# Altium footprint library SMD Connectors.PcbLib: 24 footprints (part 1 of 2)
Each footprint in its own frame and in the unit in brackets; x right, y up, seen from the top. Pads: shape width x height; smd on the part's side, far side on the other; paste and mask are expansions set on the pad; w line width, h text height; cw(c..) or ccw(c..) is an arc to the next point about the centre after c.
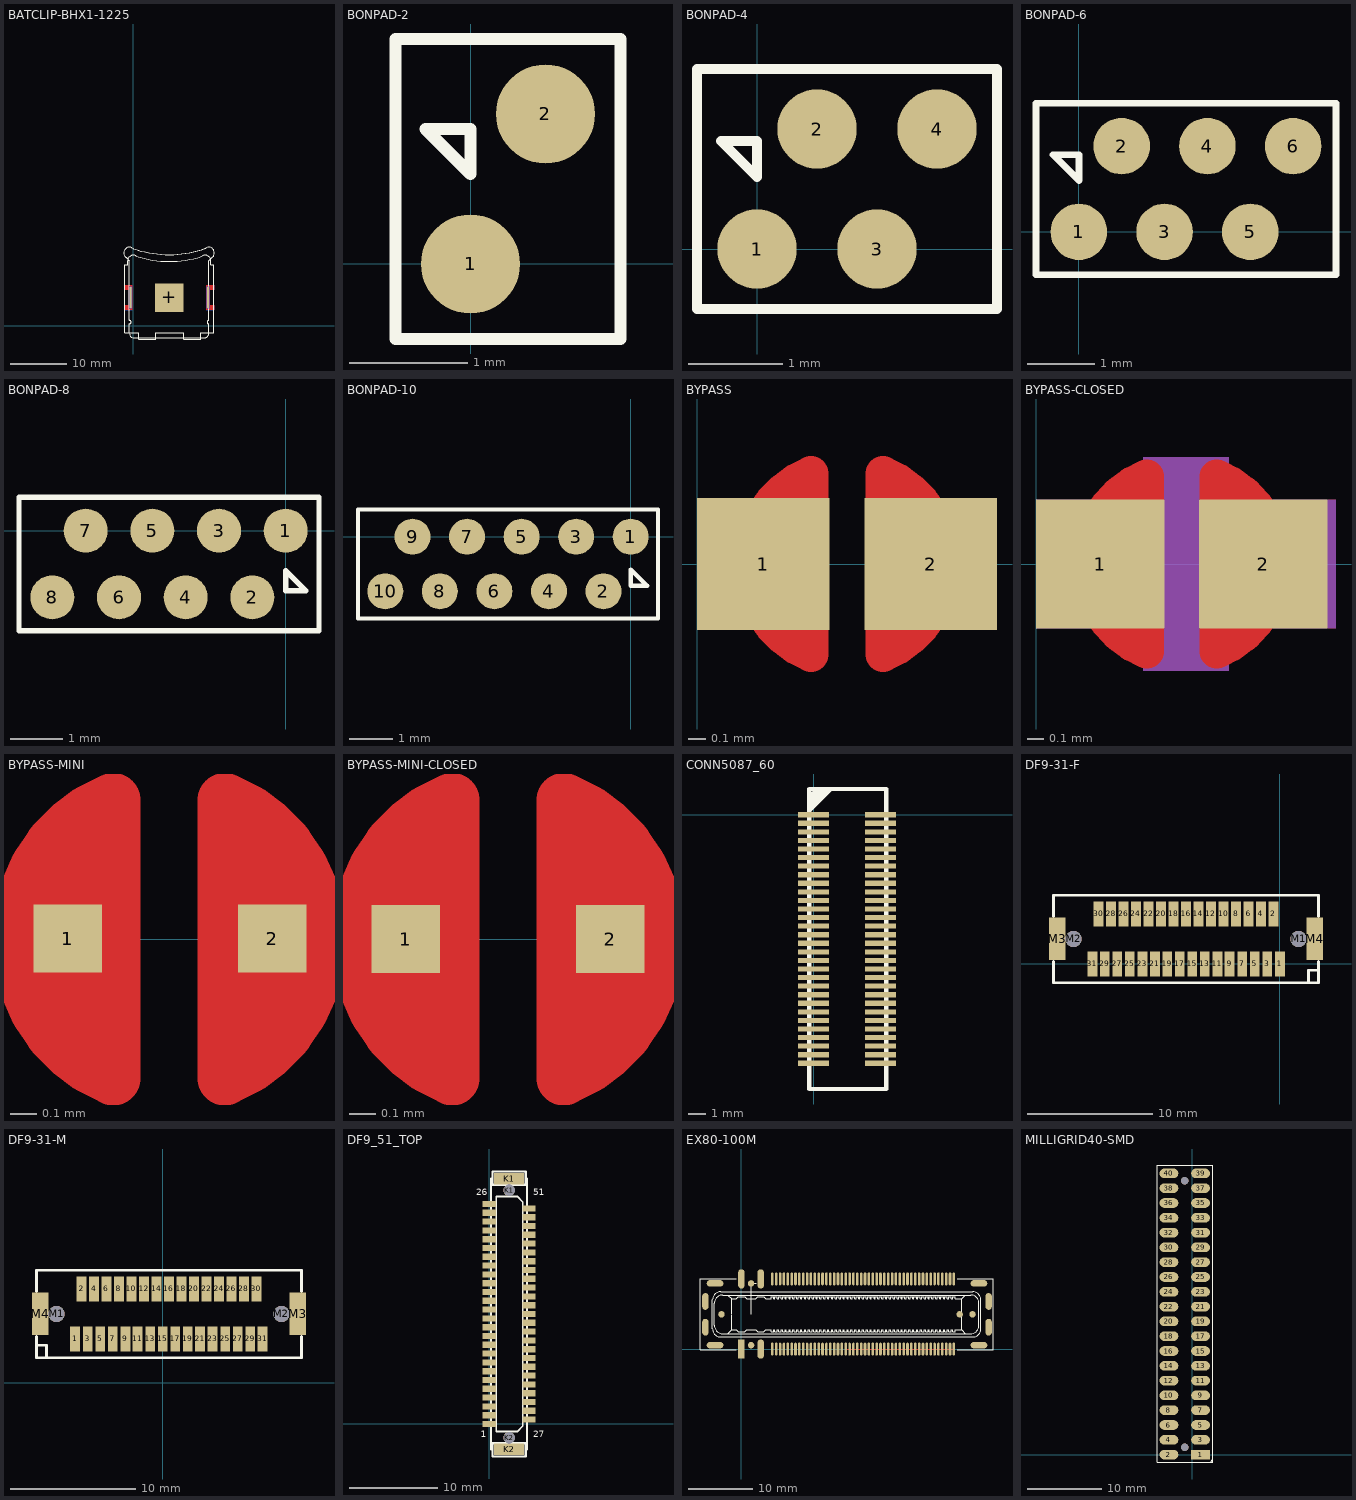
[diagram p0: the footprints below, top view; thin cyan lines are the x and y axes]

## BATCLIP-BHX1-1225 [mil] "BATTERY CLIP 1225 WITH TRAY"
pads (5):
  rect 196.85x196.85 smd mask+2: +(252,196.49)
  rect 15x150 smd far side mask+2: -(-20,197) -(524,197)
  rect 15x150 smd mask+2: -(-20,198) -(524,198)
Top Layer:
  region: 566.33,284.61 566.33,253.12 539.56,253.12 535.62,249.18 535.62,146.82 539.56,142.88 566.94,142.88 566.94,111.57 567.12,111.39 512,111.39 512,284.61
  region: -62.33,284.61 -62.33,253.12 -35.56,253.12 -31.62,249.18 -31.62,146.82 -35.56,142.88 -62.94,142.88 -62.94,111.57 -63.12,111.39 -8,111.39 -8,284.61
Bottom Layer:
  region: -62.33,283.61 -62.33,252.12 -35.56,252.12 -31.62,248.18 -31.62,145.82 -35.56,141.88 -62.94,141.88 -62.94,110.57 -63.12,110.39 -8,110.39 -8,283.61
  region: 566.33,283.61 566.33,252.12 539.56,252.12 535.62,248.18 535.62,145.82 539.56,141.88 566.94,141.88 566.94,110.57 567.12,110.39 512,110.39 512,283.61
Top Overlay:
  lines w5: -50.41,477.66 cw(c-26.32,509.78) -0.19,540.27 ; -26.32,-53.21 ccw(c5.18,-53.21) 5.18,-84.7 ; -26.32,13.72 ccw(c-26.32,25.53) -14.51,25.53 ccw(c-26.32,25.53) -26.32,37.34 ; 497.3,-84.7 ccw(c497.3,-53.21) 528.8,-53.21 ; 502.67,540.27 cw(c528.8,509.78) 552.89,477.66 ; 528.8,13.72 cw(c528.8,25.53) 516.99,25.53 cw(c528.8,25.53) 528.8,37.34
  lines w6: -39.07,455.67 cw(c0.34,454.51) 22.08,487.41 ; -0.19,540.27 ccw(c248.98,1252.87) 502.41,541.77 ; 2.81,540.27 ccw(c251.98,1252.87) 505.41,541.77 ; 21.83,486.65 ccw(c251.98,1205.62) 479.48,485.81 ; 482.46,487.41 cw(c504.2,454.51) 543.61,455.67
  lines w8: -49.94,478.29 -26.32,454.67 -26.32,415.3 -26.32,37.34 ; -26.32,-53.21 -26.32,13.72 ; 5.18,-84.7 497.3,-84.7 ; 528.8,-53.21 528.8,13.72 ; 528.8,37.34 528.8,415.3 528.8,454.67 552.42,478.29 ; 543.07,427.11 547,427.11 562.75,427.11 562.75,210.57 562.75,-49.27 ; 543.61,455.67 543.61,427.11 547.55,427.11 563.29,427.11 563.29,210.57 563.29,-49.27 472.74,-49.27 472.74,-92.58 354.63,-92.58 354.63,-49.27 157.78,-49.27 157.78,-92.58 39.67,-92.58 39.67,-49.27 -58.75,-49.27 -58.75,210.57 -58.75,427.11 -43.01,427.11 -39.07,427.11 -39.07,455.67 ; -39.07,455.67 -39.07,455.67 ; 540.61,455.67 540.61,455.67
Top Solder:
  region: 509,290 509,105 569,105 569,289 570,290
  region: -5,290 -5,105 -65,105 -65,289 -66,290
Bottom Solder:
  region: -5,290 -5,105 -65,105 -65,289 -66,290
  region: 509,290 509,105 569,105 569,289 570,290
3D body: height 139.76, standoff 118.11, extent 554,158 564.25,238
3D body: height 139.76, standoff 118.11, extent -59.12,157 -48.87,237
3D body: height 139.76, standoff 118.11, extent 39.67,-92.58 157.78,-82.33
3D body: height 139.76, standoff 118.11, extent 354.63,-93.07 472.74,-82.83
3D body: height 139.76, standoff 118.11, extent 553.54,-49.27 563.79,427.11
3D body: height 139.76, standoff 118.11, extent -59.25,-49.27 -49,427.11
3D body: height 115, standoff 25, extent -63,-85 567,545
3D body: height 139.76, standoff 118.11, extent -60,-95 560,490

## BONPAD-2 [mil]
pads (2):
  round 33 smd: 1(0,0) 2(25,50)
Top Overlay:
  lines w4: -25,-25 -25,75 50,75 50,-25 -25,-25 ; -15,45 0,45 0,30 -15,45

## BONPAD-4 [mil]
pads (4):
  round 33 smd: 1(0,0) 2(25,50) 3(50,0) 4(75,50)
Top Overlay:
  lines w4: -25,-25 100,-25 100,75 -25,75 -25,-25 ; -15,45 0,30 0,45 -15,45

## BONPAD-6 [mil]
pads (6):
  round 33 smd: 1(0,0) 2(25,50) 3(50,0) 4(75,50) 5(100,0) 6(125,50)
Top Overlay:
  lines w4: -25,-25 150,-25 150,75 -25,75 -25,-25 ; -15,45 0,30 0,45 -15,45

## BONPAD-8 [mil]
pads (8):
  round 33 smd: 1(0,0) 2(-25,-50) 3(-50,0) 4(-75,-50) 5(-100,0) 6(-125,-50) 7(-150,0) 8(-175,-50)
Top Overlay:
  lines w4: -200,-75 -200,25 25,25 25,-75 -200,-75 ; 0,-45 15,-45 0,-30 0,-45

## BONPAD-10 [mil] "BONDING PAD X 10"
pads (10):
  round 33 smd: 1(0,0) 2(-25,-50) 3(-50,0) 4(-75,-50) 5(-100,0) 6(-125,-50) 7(-150,0) 8(-175,-50) 9(-200,0) 10(-225,-50)
Top Overlay:
  lines w4: -250,-75 25,-75 25,25 -250,25 -250,-75 ; 0,-45 0,-30 15,-45 0,-45

## BYPASS [mil] "SOLDERDOT BYPASS"
pads (2):
  rect 30x30 smd paste-300: 1(15,0)
  rect 30x30 smd paste-30: 2(53,0)
Top Layer:
  lines w8: 25.83,-20.43 cw(c34,0) 25.83,20.43 25.83,-20.43 ; 42.17,-20.43 ccw(c34,0) 42.17,20.43 42.17,-20.43
Top Solder:
  circle w30: c34,0 r15

## BYPASS-CLOSED [mil] "SOLDERDOT BYPASS CLOSED"
pads (2):
  rect 30x30 smd: 1(15,0) 2(53,0)
Top Layer:
  lines w8: 25.83,-20.43 cw(c34,0) 25.83,20.43 25.83,-20.43 ; 42.17,-20.43 ccw(c34,0) 42.17,20.43 42.17,-20.43
Top Solder:
  circle w30: c34,0 r15
Mechanical 3:
  rectangle: 0,-15 70,15
  rectangle: 20,-20 50,20
  rectangle: 25,-25 45,25
3D body: height 25, standoff -15, extent 15,-20 54.79,19.83
3D body: height 10, standoff 0, extent 5,-10 65,10
3D body: height 10, standoff 0, extent 15,-20 54.84,19.92

## BYPASS-MINI [mil] "SOLDERDOT BYPASS"
pads (2):
  rect 10x10 smd paste-300: 1(19.14,0.05)
  rect 10x10 smd paste-30: 2(49.14,0.05)
Top Layer:
  region: 43,18 45,18 55,8 55,-9 46,-18 43,-18
  region: 25,18 23,18 13,8 13,-9 22,-18 25,-18
  lines w8: 25.83,-20.43 cw(c34,0) 25.83,20.43 25.83,-20.43 ; 42.17,-20.43 ccw(c34,0) 42.17,20.43 42.17,-20.43
Top Solder:
  circle w30: c34,0 r13.19

## BYPASS-MINI-CLOSED [mil] "SOLDERDOT BYPASS"
pads (2):
  rect 10x10 smd paste-300: 1(19,0)
  rect 10x10 smd paste-30: 2(49,0)
Top Layer:
  region: 25,18 23,18 13,8 13,-9 22,-18 25,-18
  region: 43,18 45,18 55,8 55,-9 46,-18 43,-18
  lines w8: 25.83,-20.43 cw(c34,0) 25.83,20.43 25.83,-20.43 ; 42.17,-20.43 ccw(c34,0) 42.17,20.43 42.17,-20.43
Top Solder:
  circle w30: c34.06,0 r13.19
3D body: height 10, standoff 0, extent 15.21,-19.91 55.06,20.01
3D body: height 25, standoff -15, extent 15.21,-19.91 55,19.92

## CONN5087_60 [mm]
pads (60):
  rect 1.8x0.3 smd: 1(0,0) 2(3.908,0) 3(0,-0.5) 4(3.908,-0.5) 5(0,-1) 6(3.908,-1) 7(0,-1.5) 8(3.908,-1.5) 9(0,-2) 10(3.908,-2) 11(0,-2.5) 12(3.908,-2.5) 13(0,-3) 14(3.908,-3) 15(0,-3.5) 16(3.908,-3.5) 17(0,-4) 18(3.908,-4) 19(0,-4.5) 20(3.908,-4.5) 21(0,-5) 22(3.908,-5) 23(0,-5.5) 24(3.908,-5.5) 25(0,-6) 26(3.908,-6) 27(0,-6.5) 28(3.908,-6.5) 29(0,-7) 30(3.908,-7) 31(0,-7.5) 32(3.908,-7.5) 33(0,-8) 34(3.908,-8) 35(0,-8.5) 36(3.908,-8.5) 37(0,-9) 38(3.908,-9) 39(0,-9.5) 40(3.908,-9.5) 41(0,-10) 42(3.908,-10) 43(0,-10.5) 44(3.908,-10.5) 45(0,-11) 46(3.908,-11) 47(0,-11.5) 48(3.908,-11.5) 49(0,-12) 50(3.908,-12) 51(0,-12.5) 52(3.908,-12.5) 53(0,-13) 54(3.908,-13) 55(0,-13.5) 56(3.908,-13.5) 57(0,-14) 58(3.908,-14) 59(0,-14.5) 60(3.908,-14.5)
Top Overlay:
  lines w0.254: -0.25,0.25 1,1.5 ; -0.25,0.5 0.75,1.5 ; -0.25,0.75 0.5,1.5 ; -0.25,1 0.25,1.5 ; -0.25,-16 4.25,-16 4.25,1.5 -0.25,1.5 -0.25,-16

## DF9-31-F [mm]
pads (35):
  rect 0.8x2 smd: 1(0,0) 2(-0.5,4) 3(-1,0) 4(-1.5,4) 5(-2,0) 6(-2.5,4) 7(-3,0) 8(-3.5,4) 9(-4,0) 10(-4.5,4) 11(-5,0) 12(-5.5,4) 13(-6,0) 14(-6.5,4) 15(-7,0) 16(-7.5,4) 17(-8,0) 18(-8.5,4) 19(-9,0) 20(-9.5,4) 21(-10,0) 22(-10.5,4) 23(-11,0) 24(-11.5,4) 25(-12,0) 26(-12.5,4) 27(-13,0) 28(-13.5,4) 29(-14,0) 30(-14.5,4) 31(-15,0)
  round 1.3 hole 1.3 unplated: M1(1.5,2) M2(-16.5,2)
  rect 1.3x3.4 smd: M3(-17.8,2) M4(2.8,2)
Top Overlay:
  lines w0.203: -18.1,0.2 -18.1,-1.5 -6.5,-1.5 3.1,-1.5 3.1,0.2 ; -18.1,3.8 -18.1,5.5 -8.5,5.5 3.1,5.5 3.1,3.8 ; 2.3,-1.5 2.3,-0.5 3.1,-0.5

## DF9-31-M [mm]
pads (35):
  rect 0.8x2 smd: 1(-7,3.5) 2(-6.5,7.5) 3(-6,3.5) 4(-5.5,7.5) 5(-5,3.5) 6(-4.5,7.5) 7(-4,3.5) 8(-3.5,7.5) 9(-3,3.5) 10(-2.5,7.5) 11(-2,3.5) 12(-1.5,7.5) 13(-1,3.5) 14(-0.5,7.5) 15(0,3.5) 16(0.5,7.5) 17(1,3.5) 18(1.5,7.5) 19(2,3.5) 20(2.5,7.5) 21(3,3.5) 22(3.5,7.5) 23(4,3.5) 24(4.5,7.5) 25(5,3.5) 26(5.5,7.5) 27(6,3.5) 28(6.5,7.5) 29(7,3.5) 30(7.5,7.5) 31(8,3.5)
  round 1.3 hole 1.3 unplated: M1(-8.5,5.5) M2(9.5,5.5)
  rect 1.3x3.4 smd: M3(10.8,5.5) M4(-9.8,5.5)
Top Overlay:
  lines w0.203: -10.1,3 -9.3,3 -9.3,2 ; -10.1,3.7 -10.1,2 -0.5,2 11.1,2 11.1,3.7 ; -10.1,7.3 -10.1,9 1.5,9 11.1,9 11.1,7.3

## DF9_51_TOP [mm]
pads (55):
  rect 1.5x0.7 smd: 1(0,0) 2(0,1) 3(0,2) 4(0,3) 5(0,4) 6(0,5) 7(0,6) 8(0,7) 9(0,8) 10(0,9) 11(0,10) 12(0,11) 13(0,12) 14(0,13) 15(0,14) 16(0,15) 17(0,16) 18(0,17) 19(0,18) 20(0,19) 21(0,20) 22(0,21) 23(0,22) 24(0,23) 25(0,24) 26(0,25) 27(4.5,0.5) 28(4.5,1.5) 29(4.5,2.5) 30(4.5,3.5) 31(4.5,4.5) 32(4.5,5.5) 33(4.5,6.5) 34(4.5,7.5) 35(4.5,8.5) 36(4.5,9.5) 37(4.5,10.5) 38(4.5,11.5) 39(4.5,12.5) 40(4.5,13.5) 41(4.5,14.5) 42(4.5,15.5) 43(4.5,16.5) 44(4.5,17.5) 45(4.5,18.5) 46(4.5,19.5) 47(4.5,20.5) 48(4.5,21.5) 49(4.5,22.5) 50(4.5,23.5) 51(4.5,24.5)
  round 1.3 hole 1.3: K1(2.25,26.55) K2(2.25,-1.55)
  rect 3.4x1.3 smd: K1(2.25,27.85) K2(2.25,-2.85)
Top Overlay:
  lines w0.2: 0.8,-0.4 0.8,25.6 ; 0.8,-0.095 0.8,-0.867 3.168,-0.867 3.805,-0.231 3.805,25.231 3.168,25.867 0.8,25.867 0.8,25.095 ; 3.8,21.6 3.8,23.1
  lines w0.25: 0.2,27 0.2,27.9 0.35,27.9 ; 0.2,27.2 0.2,-2.9 0.35,-2.9 ; 4.15,-2.9 4.3,-2.9 4.3,-1.6 ; 4.15,27.9 4.3,27.9 4.3,26.6 ; 4.3,-2 4.3,27.2 ; 0.35,-2.9 0.35,-3.7 4.15,-3.7 4.15,-2.2 0.35,-2.2 0.35,-2.9 ; 0.35,27.9 0.35,28.7 4.15,28.7 4.15,27.2 0.35,27.2 0.35,27.9
  text "51" at 5,26 h0.75
  text "26" at -1.5,26 h0.75
  text "27" at 5,-1.5 h0.75
  text "1" at -1,-1.5 h0.75

## EX80-100M [mm]
pads (113):
  rect 1x3 smd: 1(0,0)
  oval 1x3 smd: 2(3,0) 51(0,10.9) 52(3,10.9)
  oval 0.4x2 smd: 3(4.8,0) 4(5.4,0) 5(6,0) 6(6.6,0) 7(7.2,0) 8(7.8,0) 9(8.4,0) 10(9,0) 11(9.6,0) 12(10.2,0) 13(10.8,0) 14(11.4,0) 15(12,0) 16(12.6,0) 17(13.2,0) 18(13.8,0) 19(14.4,0) 20(15,0) 21(15.6,0) 22(16.2,0) 23(16.8,0) 24(17.4,0) 25(18,0) 26(18.6,0) 27(19.2,0) 28(19.8,0) 29(20.4,0) 30(21,0) 31(21.6,0) 32(22.2,0) 33(22.8,0) 34(23.4,0) 35(24,0) 36(24.6,0) 37(25.2,0) 38(25.8,0) 39(26.4,0) 40(27,0) 41(27.6,0) 42(28.2,0) 43(28.8,0) 44(29.4,0) 45(30,0) 46(30.6,0) 47(31.2,0) 48(31.8,0) 49(32.4,0) 50(33,0) 53(4.8,10.9) 54(5.4,10.9) 55(6,10.9) 56(6.6,10.9) 57(7.2,10.9) 58(7.8,10.9) 59(8.4,10.9) 60(9,10.9) 61(9.6,10.9) 62(10.2,10.9) 63(10.8,10.9) 64(11.4,10.9) 65(12,10.9) 66(12.6,10.9) 67(13.2,10.9) 68(13.8,10.9) 69(14.4,10.9) 70(15,10.9) 71(15.6,10.9) 72(16.2,10.9) 73(16.8,10.9) 74(17.4,10.9) 75(18,10.9) 76(18.6,10.9) 77(19.2,10.9) 78(19.8,10.9) 79(20.4,10.9) 80(21,10.9) 81(21.6,10.9) 82(22.2,10.9) 83(22.8,10.9) 84(23.4,10.9) 85(24,10.9) 86(24.6,10.9) 87(25.2,10.9) 88(25.8,10.9) 89(26.4,10.9) 90(27,10.9) 91(27.6,10.9) 92(28.2,10.9) 93(28.8,10.9) 94(29.4,10.9) 95(30,10.9) 96(30.6,10.9) 97(31.2,10.9) 98(31.8,10.9) 99(32.4,10.9) 100(33,10.9)
  oval 1x2.6 all layers, no hole: G1(-5.6,3.4) G1(-5.6,7.4) G1(38.4,3.4) G1(38.4,7.4)
  oval 2.6x1 all layers, no hole: G2(-4.1,0.6) G2(-4.1,10.2) G2(36.9,0.6) G2(36.9,10.2)
  round 1 all layers, no hole: m0(-3.1,5.4) M0(1.5,0.6) M0(1.5,10.2) m0(33.9,5.4) m0(35.9,5.4)
Top Layer:
  lines w0.102: 16.4,0 33,0
Top Overlay:
  drawing of 454 lines, arcs and shapes, not listed

## MILLIGRID40-SMD [mm]
pads (42):
  rect 2.54x1.3 smd: 1(1.143,0)
  oval 2.54x1.3 smd: 2(-3.124,0) 3(1.143,2) 4(-3.124,2) 5(1.143,4) 6(-3.124,4) 7(1.143,6) 8(-3.124,6) 9(1.143,8) 10(-3.124,8) 11(1.143,10) 12(-3.124,10) 13(1.143,12) 14(-3.124,12) 15(1.143,14) 16(-3.124,14) 17(1.143,16) 18(-3.124,16) 19(1.143,18) 20(-3.124,18) 21(1.143,20) 22(-3.124,20) 23(1.143,22) 24(-3.124,22) 25(1.143,24) 26(-3.124,24) 27(1.143,26) 28(-3.124,26) 29(1.143,28) 30(-3.124,28) 31(1.143,30) 32(-3.124,30) 33(1.143,32) 34(-3.124,32) 35(1.143,34) 36(-3.124,34) 37(1.143,36) 38(-3.124,36) 39(1.143,38) 40(-3.124,38)
  round 1 hole 1 unplated: M1(-0.989,0.991) M2(-1,37)
Top Overlay:
  lines w0.102: 2.54,-1.016 cw(c2.794,-1.016) 2.794,-0.762 ; -4.699,-1.016 0.508,-1.016 2.794,-1.016 2.794,39.116 -4.699,39.116 -4.699,-1.016